# Altium schematic symbol library Altium-GEN.SchLib: 9 symbols
Pins are listed as number, name and electrical type; pins without a type are passive.

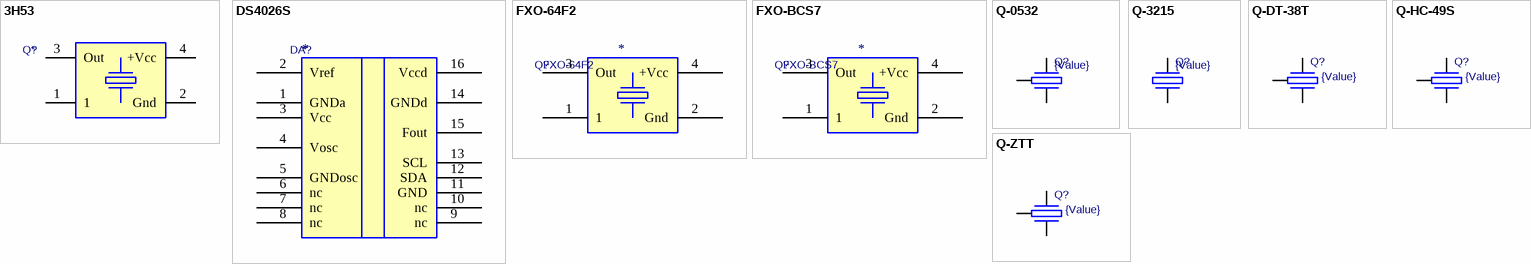
[diagram p0: symbols 3H53 to Q-ZTT]

## 3H53
designator Q?
Smd Crystal Generator, 5x3.2 mm; Value: *
footprint SMD0503(3H53)
pins: 1, 2 Gnd, 3 Out, 4 +Vcc

## DS4026S
designator DA?
10MHz to 51.84MHz TCXO; Value: *
footprint SOIC127P1030-16AL (SOIC, 16-Leads, Body 10.3x7.5mm, Pitch 1.27mm, IPC High Density)
pins: 1 GNDa, 2 Vref, 3 Vcc, 4 Vosc, 5 GNDosc, 6 nc, 7 nc, 8 nc, 9 nc, 10 nc, 11 GND, 12 SDA, 13 SCL, 14 GNDd, 15 Fout, 16 Vccd

## FXO-64F2
designator Q?
Smd Crystal Oscillators; Value: *
footprint SMD0503(3H53)
pins: 1, 2 Gnd, 3 Out, 4 +Vcc

## FXO-BCS7
designator Q?
Smd Crystal Oscillators; Value: *
footprint SMD0705
pins: 1, 2 Gnd, 3 Out, 4 +Vcc

## Q-0532
designator Q?  value {Value}
SMD Low Profile Crystal Resonator
footprint SMD0503(3H53)
pins: 1, 2, 3, 4

## Q-3215
designator Q?  value {Value}
SMD Low Profile Crystal Resonator
footprint SMD3215
pins: 1, 2

## Q-DT-38T
designator Q?  value {Value}
Cylinder Crystal Resonator
footprint DT-38T
pins: 1, 2, 3

## Q-HC-49S
designator Q?  value {Value}
Low Profile Crystal Resonator
footprint HC-49S
pins: 1, 2, 3

## Q-ZTT
designator Q?  value {Value}
Ceramic resonator
footprint ZTT
pins: 1, 2, 3